# EAGLE library part ARDUINOPROMINI (library arduino_pro_mini)
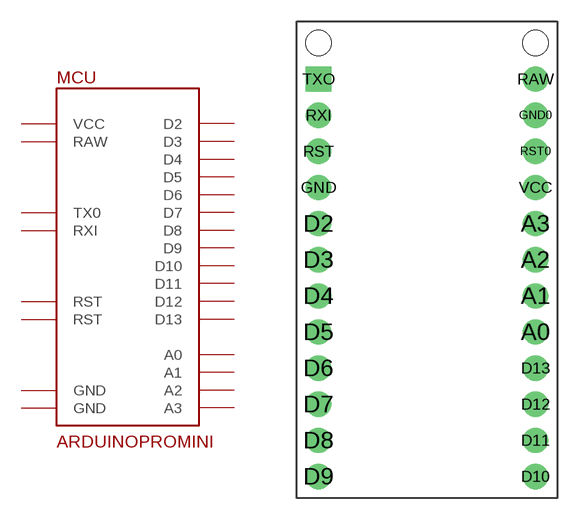
[diagram p0: symbol with the pads of PDIP-26; footprint PDIP-26]

Designator prefix MCU

## ARDUINOPROMINI  [PDIP-26]
A0  A0
A1  A1
A2  A2
A3  A3
D2  D2
D3  D3
D4  D4
D5  D5
D6  D6
D7  D7
D8  D8
D9  D9
D10  D10
D11  D11
D12  D12
D13  D13
GND  GND  pwr
GND0  GND  pwr
RAW  RAW  pwr
RST  RST
RST0  RST
RXI  RXI  in
TXO  TX0  out
VCC  VCC  pwr

## Footprint PDIP-26 (pad centres in mm)
drill 0.8 pad 1.778: A0 15.24,-20.32; A1 15.24,-17.78; A2 15.24,-15.24; A3 15.24,-12.7; D2 0,-12.7; D3 0,-15.24; D4 0,-17.78; D5 0,-20.32; D6 0,-22.86; D7 0,-25.4; D8 0,-27.94; D9 0,-30.48; D10 15.24,-30.48; D11 15.24,-27.94; D12 15.24,-25.4; D13 15.24,-22.86; GND 0,-10.16; GND0 15.24,-5.08; RAW 15.24,-2.54; RST 0,-7.62; RST0 15.24,-7.62; RXI 0,-5.08; VCC 15.24,-10.16
drill 0.8 pad 1.778 square: TXO 0,-2.54
hole 1.778 at 0,0
hole 1.778 at 15.24,0